# EAGLE library part WURTH_WE-LAN (library Traficon)
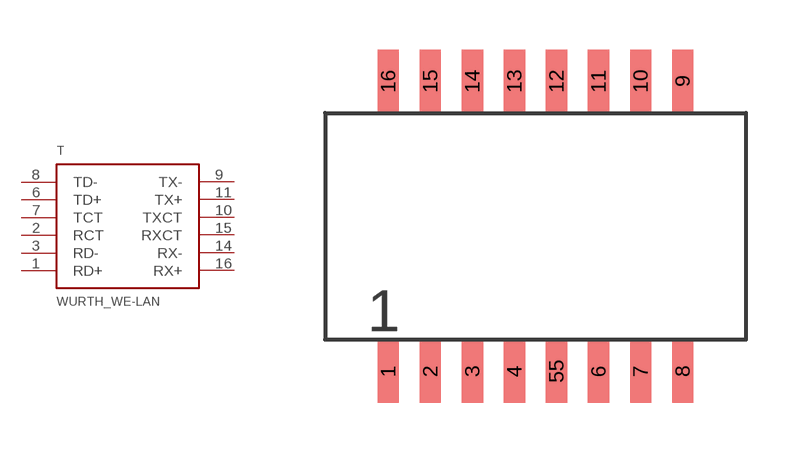
[diagram p228: symbol with the pads of WURTH_749010011; footprint WURTH_749010011]

Designator prefix T

## WURTH_WE-LANOK  [WURTH_749010011]
1  RD+  pas
2  RCT  pas
3  RD-  pas
6  TD+  pas
7  TCT  pas
8  TD-  pas
9  TX-  pas
10  TXCT  pas
11  TX+  pas
14  RX-  pas
15  RXCT  pas
16  RX+  pas

## Footprint WURTH_749010011 (pad centres in mm)
smd 0.64 x 1.91: 1 -4.445,-4.385; 2 -3.175,-4.385; 3 -1.905,-4.385; 4 -0.635,-4.385; 6 1.905,-4.385; 7 3.175,-4.385; 8 4.445,-4.385; 9 4.445,4.385; 10 3.175,4.385; 11 1.905,4.385; 12 0.635,4.385; 13 -0.635,4.385; 14 -1.905,4.385; 15 -3.175,4.385; 16 -4.445,4.385; 55 0.635,-4.385